# Altium footprint library TDFN-8-1.PcbLib: 1 footprints
Each footprint in its own frame and in the unit in brackets; x right, y up, seen from the top. Pads: shape width x height; smd on the part's side, far side on the other; paste and mask are expansions set on the pad; w line width, h text height; cw(c..) or ccw(c..) is an arc to the next point about the centre after c.
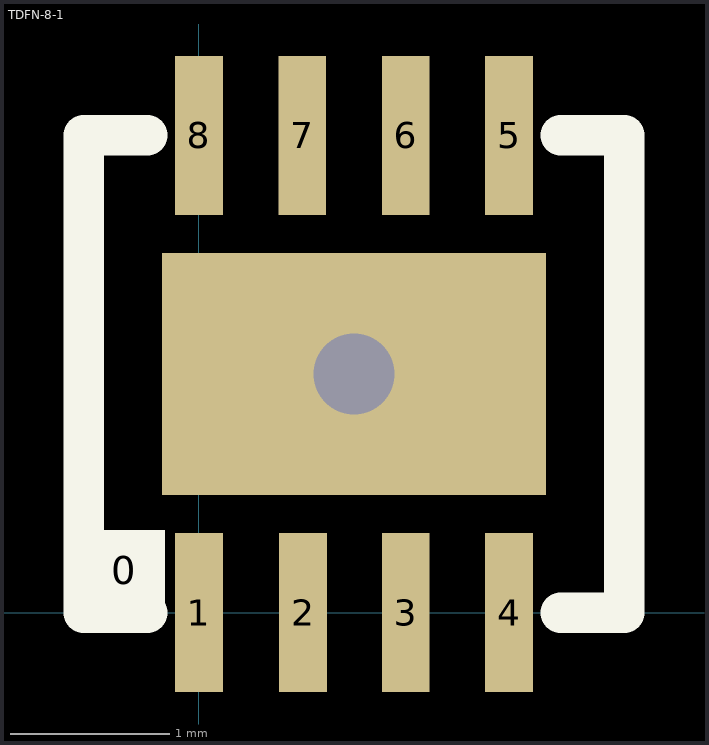
[diagram p0: the footprint, top view; thin cyan lines are the x and y axes]

## TDFN-8-1 [mm]
height 0.8
pads (10):
  rect 0.508x0.508 on Top Overlay: 0(-0.468,0.267)
  rect 0.3x1 smd: 1(0,0) 2(0.655,0) 3(1.3,0) 4(1.95,0) 5(1.95,3) 6(1.3,3) 7(0.65,3) 8(0,3)
  rect 2.413x1.524 / inner round 0.508 / far side round 0.508 hole 0.508: ""(0.975,1.5)
TopOverlay:
  lines w0.254: -0.325,0 -0.725,0 -0.725,3 -0.325,3 ; 2.275,0 2.675,0 2.675,3 2.275,3